# Altium integrated library 1N4148.IntLib: 1 symbol
Pins are listed as number, name and electrical type; pins without a type are passive.

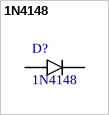
[diagram p0: symbol 1N4148]

## 1N4148
designator D?
Diode Small Signal Switching 100V 0.3A 2-Pin DO-35; MF: MICROSS/On Semiconductor; Package: DO-35 Vishay; Availability: Unavailable; MP: 1N4148; SnapEDA_Link: https://www.snapeda.com/parts/1N4148/MICROSS/On%20Semiconductor/view-part/?ref=snap; Price: None; Value: *
footprint DIOAD829W49L456D191_1N4148(Primary)
pins: A, C